# EAGLE library part PIC18F25J50-X_SS (library pic18f25)
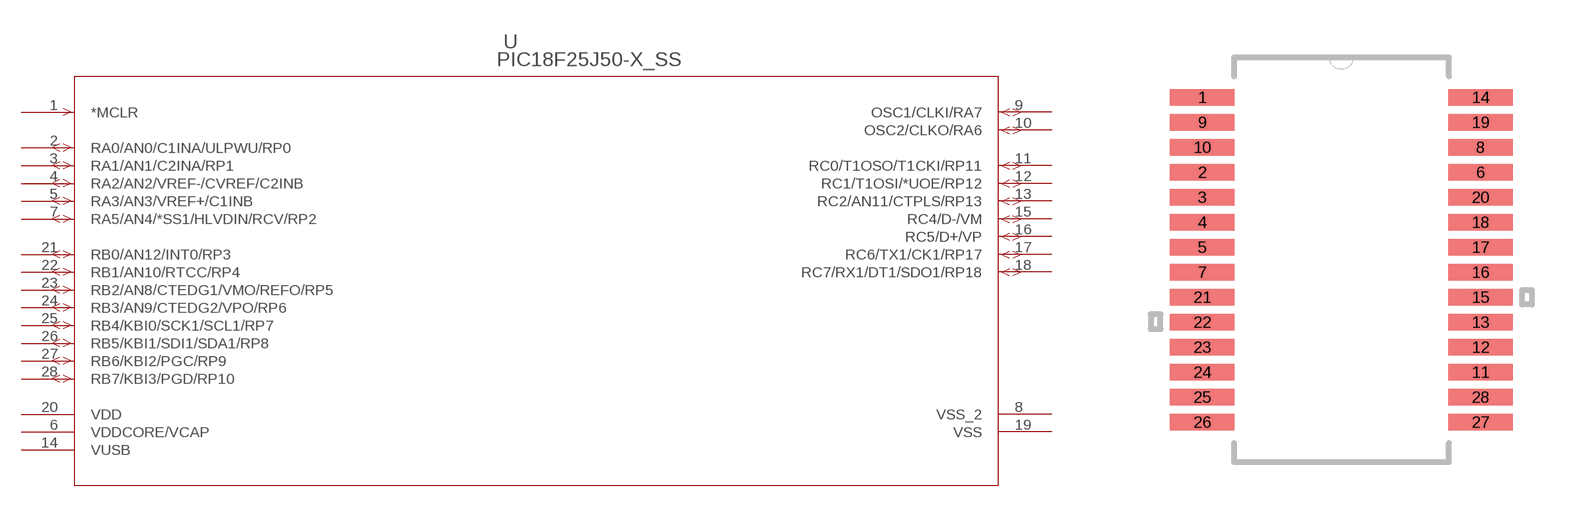
[diagram p1: symbol with the pads of SSOP28_MC; footprint SSOP28_MC]

Designator prefix -

## PIC18F25J50-X_SS  [SSOP28_MC]
1  *MCLR  in
2  RA0/AN0/C1INA/ULPWU/RP0
3  RA1/AN1/C2INA/RP1
4  RA2/AN2/VREF-/CVREF/C2INB
5  RA3/AN3/VREF+/C1INB
6  VDDCORE/VCAP  pwr
7  RA5/AN4/*SS1/HLVDIN/RCV/RP2
8  VSS_2  pwr
9  OSC1/CLKI/RA7
10  OSC2/CLKO/RA6
11  RC0/T1OSO/T1CKI/RP11
12  RC1/T1OSI/*UOE/RP12
13  RC2/AN11/CTPLS/RP13
14  VUSB  pwr
15  RC4/D-/VM
16  RC5/D+/VP
17  RC6/TX1/CK1/RP17
18  RC7/RX1/DT1/SDO1/RP18
19  VSS  pwr
20  VDD  pwr
21  RB0/AN12/INT0/RP3
22  RB1/AN10/RTCC/RP4
23  RB2/AN8/CTEDG1/VMO/REFO/RP5
24  RB3/AN9/CTEDG2/VPO/RP6
25  RB4/KBI0/SCK1/SCL1/RP7
26  RB5/KBI1/SDI1/SDA1/RP8
27  RB6/KBI2/PGC/RP9
28  RB7/KBI3/PGD/RP10

## Footprint SSOP28_MC (pad centres in mm)
smd 1.676 x 0.432: 1 -3.617,4.225; 2 -3.617,2.275; 3 -3.617,1.625; 4 -3.617,0.975; 5 -3.617,0.325; 6 3.617,2.275; 7 -3.617,-0.325; 8 3.617,2.925; 9 -3.617,3.575; 10 -3.617,2.925; 11 3.617,-2.925; 12 3.617,-2.275; 13 3.617,-1.625; 14 3.617,4.225; 15 3.617,-0.975; 16 3.617,-0.325; 17 3.617,0.325; 18 3.617,0.975; 19 3.617,3.575; 20 3.617,1.625; 21 -3.617,-0.975; 22 -3.617,-1.625; 23 -3.617,-2.275; 24 -3.617,-2.925; 25 -3.617,-3.575; 26 -3.617,-4.225; 27 3.617,-4.225; 28 3.617,-3.575